# EAGLE library part 736-516 (library con-wago_736)
Serie 736, Doppelstock-Klemmenleiste für Leiterplatten 2 Lötstifte in Reihe / Series 736, Double-deck PCB terminal strip 2 solder pins, in line Polzahl / Pole No.: 16 Rastermaß / Pitch: 7.5 mm Bemessungsspannung / Rated Voltage: 630 V Nennstrom / Nominal Current: 21 A Leiterquerschnitt / Conductor Size: 0.08 - 2.5 mm² Anschlusstechnik / Connection Technology: CAGE CLAMP® Lötstiftlänge: / Solder Pin Length: 4 mm Leitereinführung (zur Platine) / Conductor entry angle (to PCB): 45 ° Farbe / Color: grau / gray Stand: 01.01.2012. Die jeweils aktuellen Daten zu diesem Artikel finden Sie in unserem Produktkatalog, den Sie unter www.wago.com einsehen können. As of: 01/01/2012. Please find the newest data for this article in our product catalogue, which can be viewed under www.wago.com.
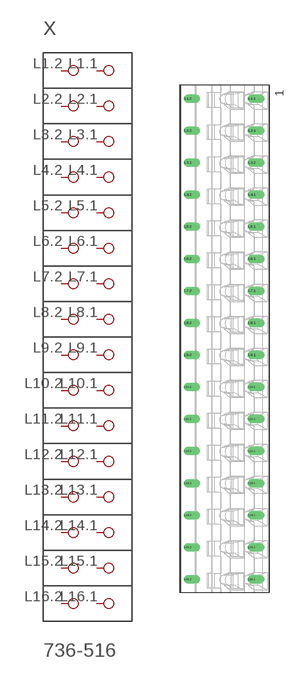
[diagram p19: symbol with the pads of P-736-516; footprint P-736-516]

Designator prefix X

## 736-516  [P-736-516]
L1.1  P1.1
L1.2  P1.2
L2.1  P2.1
L2.2  P2.2
L3.1  P3.1
L3.2  P3.2
L4.1  P4.1
L4.2  P4.2
L5.1  P5.1
L5.2  P5.2
L6.1  P6.1
L6.2  P6.2
L7.1  P7.1
L7.2  P7.2
L8.1  P8.1
L8.2  P8.2
L9.1  P9.1
L9.2  P9.2
L10.1  P10.1
L10.2  P10.2
L11.1  P11.1
L11.2  P11.2
L12.1  P12.1
L12.2  P12.2
L13.1  P13.1
L13.2  P13.2
L14.1  P14.1
L14.2  P14.2
L15.1  P15.1
L15.2  P15.2
L16.1  P16.1
L16.2  P16.2

## Footprint P-736-516 (pad centres in mm)
drill 1.3 offset: L1.1 6.4,56.2; L1.2 -8.6,56.2; L2.1 6.4,48.7; L2.2 -8.6,48.7; L3.1 -8.6,41.2; L3.2 6.4,41.2; L4.1 6.4,33.7; L4.2 -8.6,33.7; L5.1 6.4,26.2; L5.2 -8.6,26.2; L6.1 6.4,18.7; L6.2 -8.6,18.7; L7.1 6.4,11.2; L7.2 -8.6,11.2; L8.1 6.4,3.7; L8.2 -8.6,3.7; L9.1 6.4,-3.8; L9.2 -8.6,-3.8; L10.1 6.4,-11.3; L10.2 -8.6,-11.3; L11.1 6.4,-18.8; L11.2 -8.6,-18.8; L12.1 6.4,-26.3; L12.2 -8.6,-26.3; L13.1 6.4,-33.8; L13.2 -8.6,-33.8; L14.1 6.4,-41.3; L14.2 -8.6,-41.3; L15.1 6.4,-48.8; L15.2 -8.6,-48.8; L16.1 6.4,-56.3; L16.2 -8.6,-56.3